# Altium schematic symbol library OLED_BREAKOUT_SCH_LIB.SchLib: 7 symbols
Pins are listed as number, name and electrical type; pins without a type are passive.

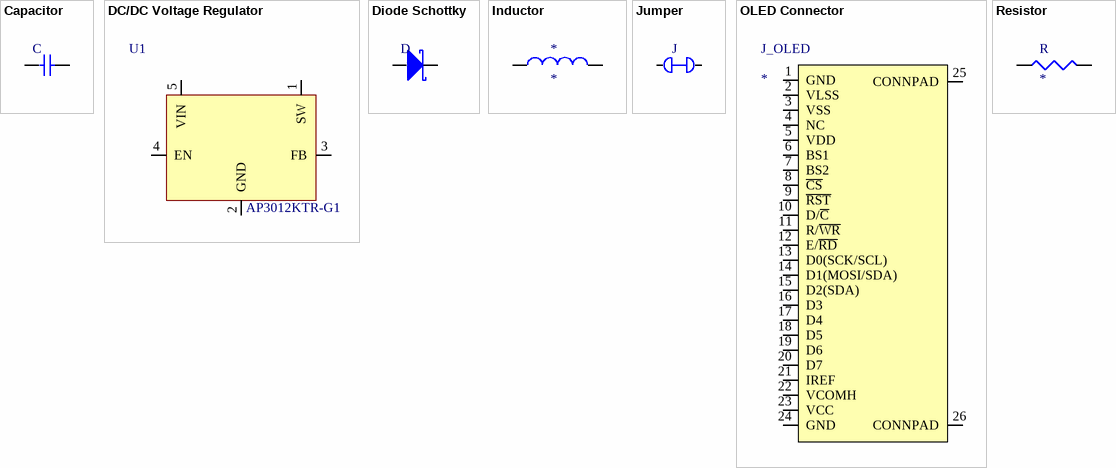
[diagram p0: symbols Capacitor to Resistor]

## Capacitor
designator C
pins: 1, 2

## DC/DC Voltage Regulator
designator U1  Part#: AP3012KTR-G1
Integrated Circuits (ICs) / PMIC - Voltage Regulators - DC DC Switching Regulators
pins: 1 SW, 2 GND, 3 FB, 4 EN, 5 VIN

## Diode Schottky
designator D
pins: 1, 2

## Inductor
designator *
pins: 1, 2

## Jumper
designator J
pins: 1, 2

## OLED Connector
designator J_OLED
24 Position, 0.5mm Pitch, Gold, FCC FPC ZIF Connector
pins: 1 GND, 2 VLSS, 3 VSS, 4 NC, 5 VDD, 6 BS1, 7 BS2, 8 ~{CS}, 9 ~{RST}, 10 D/~{C}, 11 R/~{WR}, 12 E/~{RD}, 13 D0(SCK/SCL), 14 D1(MOSI/SDA), 15 D2(SDA), 16 D3, 17 D4, 18 D5, 19 D6, 20 D7, 21 IREF, 22 VCOMH, 23 VCC, 24 GND, 25 CONNPAD, 26 CONNPAD

## Resistor
designator R
footprint Model Name (Footprint not found)
pins: 1, 2